# Altium footprint library Pieces.PcbLib: 19 footprints (part 2 of 2)
Each footprint in its own frame and in the unit in brackets; x right, y up, seen from the top. Pads: shape width x height; smd on the part's side, far side on the other; paste and mask are expansions set on the pad; w line width, h text height; cw(c..) or ccw(c..) is an arc to the next point about the centre after c.
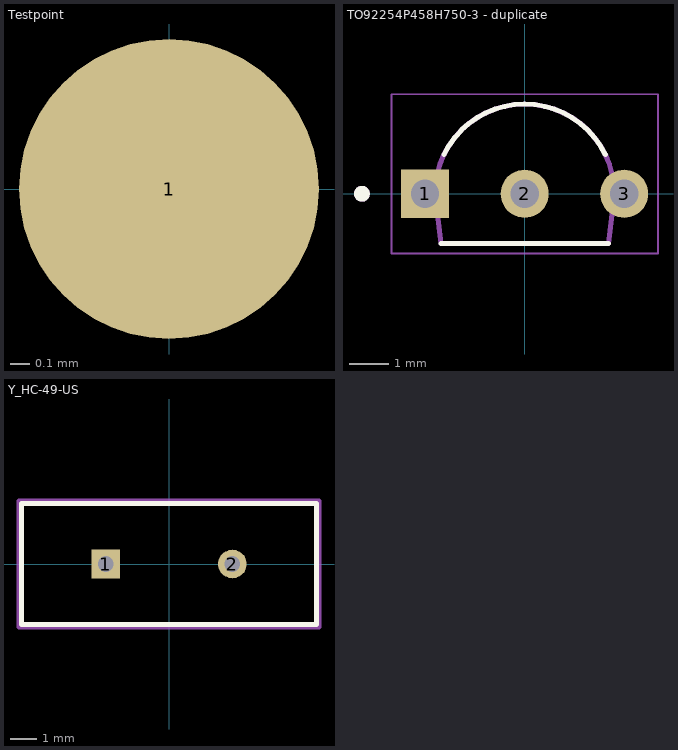
[diagram p1: the footprints below, top view; thin cyan lines are the x and y axes]

## Testpoint [mil]
pads (1):
  round 60 smd: 1(0,0)

## TO92254P458H750-3 - duplicate [mm]
height 7.5
pads (3):
  rect 1.228x1.228 / inner round 1.228 / far side rect 1.228x1.228 hole 0.72 mask+0.102: 1(-2.54,0)
  round 1.228 hole 0.72 mask+0.102: 2(0,0) 3(2.54,0)
Top Overlay:
  circle w0.2: c-4.154,0 r0.1
  lines w0.127: -2.135,-1.27 2.135,-1.27 ; -2.059,1.002 cw(c0.002,-0.003) 0.002,2.29 ; -0.002,2.29 cw(c-0.002,-0.003) 2.059,1.002
Mechanical 13:
  circle w0.2: c-4.154,0 r0.1
  lines w0.127: -2.29,0 cw(c0,0) 2.29,0 2.135,-1.27 -2.135,-1.27 -2.29,0
Mechanical 15:
  lines w0.05: -3.404,-1.52 3.404,-1.52 3.404,2.54 -3.404,2.54 -3.404,-1.52
3D body "step_temp.STEP": height 8.09, standoff -9.01, extent -2.74,-1.27 2.74,2.33

## Y_HC-49-US [mm] "Xtal"
height 7.6
pads (2):
  rect 1.1x1.1 hole 0.6 paste-2539.97 mask+0: 1(-2.44,0)
  round 1.1 hole 0.6 paste-2539.97 mask+0: 2(2.44,0)
Top Overlay:
  lines w0.2: -5.675,-2.325 -5.675,2.325 5.675,2.325 5.675,-2.325 -5.675,-2.325
Top 3D Body:
  lines w0.2: -5.675,-2.325 -5.675,2.325 5.675,2.325 5.675,-2.325 -5.675,-2.325
Top Courtyard:
  lines w0.2: -5.775,-2.425 -5.775,2.425 5.775,2.425 5.775,-2.425 -5.775,-2.425
Top Assembly:
  text ".Designator" at -2.032,0.696 h1
3D body "Crys_ECS_ECS-80-20-4X_eec.STEP": height 0.25, standoff 0, extent -5.775,-2.425 5.775,2.425